# EAGLE library part STM32F030X-LQFP48 (library dooba)
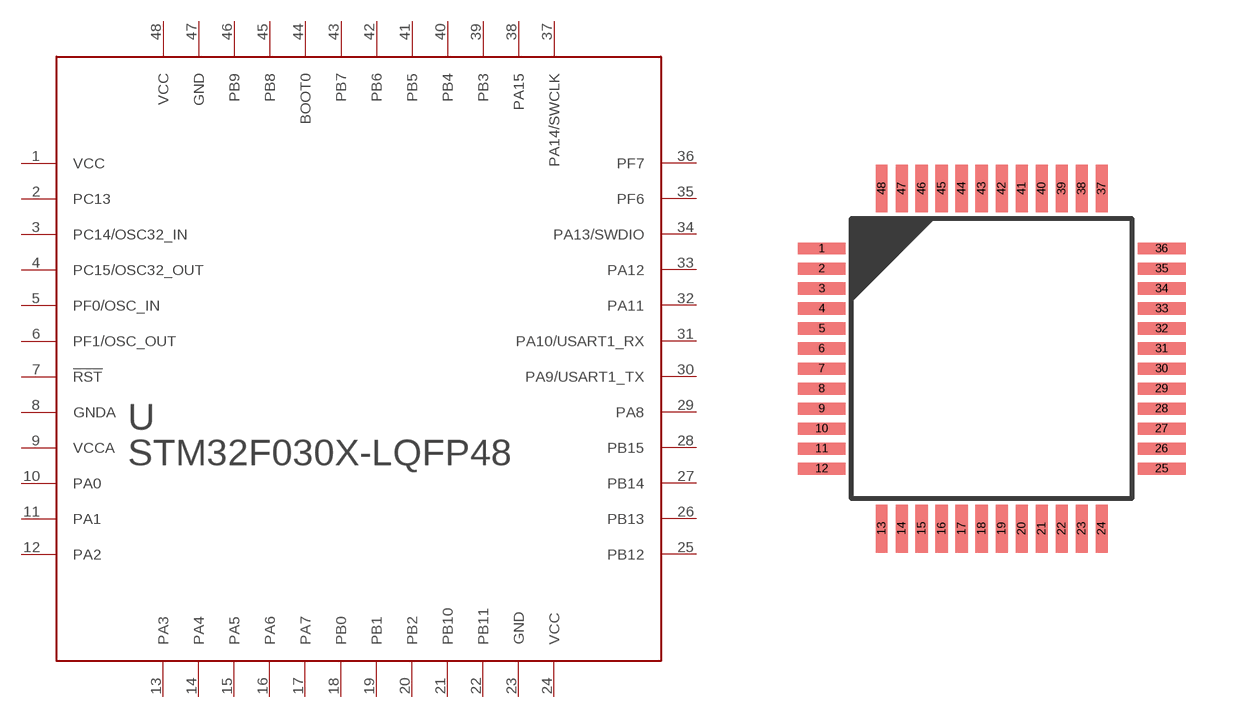
[diagram p24: symbol with the pads of QFP48; footprint QFP48]

Designator prefix U

## STM32F030X-LQFP48LQFP48  [QFP48]
1  VCC
2  PC13
3  PC14/OSC32_IN
4  PC15/OSC32_OUT
5  PF0/OSC_IN
6  PF1/OSC_OUT
7  !RST
8  GNDA
9  VCCA
10  PA0
11  PA1
12  PA2
13  PA3
14  PA4
15  PA5
16  PA6
17  PA7
18  PB0
19  PB1
20  PB2
21  PB10
22  PB11
23  GND
24  VCC
25  PB12
26  PB13
27  PB14
28  PB15
29  PA8
30  PA9/USART1_TX
31  PA10/USART1_RX
32  PA11
33  PA12
34  PA13/SWDIO
35  PF6
36  PF7
37  PA14/SWCLK
38  PA15
39  PB3
40  PB4
41  PB5
42  PB6
43  PB7
44  BOOT0
45  PB8
46  PB9
47  GND
48  VCC

## Footprint QFP48 (pad centres in mm)
smd 1.2 x 0.3: 1 -4.25,2.75; 2 -4.25,2.25; 3 -4.25,1.75; 4 -4.25,1.25; 5 -4.25,0.75; 6 -4.25,0.25; 7 -4.25,-0.25; 8 -4.25,-0.75; 9 -4.25,-1.25; 10 -4.25,-1.75; 11 -4.25,-2.25; 12 -4.25,-2.75; 25 4.25,-2.75; 26 4.25,-2.25; 27 4.25,-1.75; 28 4.25,-1.25; 29 4.25,-0.75; 30 4.25,-0.25; 31 4.25,0.25; 32 4.25,0.75; 33 4.25,1.25; 34 4.25,1.75; 35 4.25,2.25; 36 4.25,2.75
smd 0.3 x 1.2: 13 -2.75,-4.25; 14 -2.25,-4.25; 15 -1.75,-4.25; 16 -1.25,-4.25; 17 -0.75,-4.25; 18 -0.25,-4.25; 19 0.25,-4.25; 20 0.75,-4.25; 21 1.25,-4.25; 22 1.75,-4.25; 23 2.25,-4.25; 24 2.75,-4.25; 37 2.75,4.25; 38 2.25,4.25; 39 1.75,4.25; 40 1.25,4.25; 41 0.75,4.25; 42 0.25,4.25; 43 -0.25,4.25; 44 -0.75,4.25; 45 -1.25,4.25; 46 -1.75,4.25; 47 -2.25,4.25; 48 -2.75,4.25